# Altium footprint library XC7K160T.PcbLib: 72 footprints (part 2 of 5)
Each footprint in its own frame and in the unit in brackets; x right, y up, seen from the top. Pads: shape width x height; smd on the part's side, far side on the other; paste and mask are expansions set on the pad; w line width, h text height; cw(c..) or ccw(c..) is an arc to the next point about the centre after c.
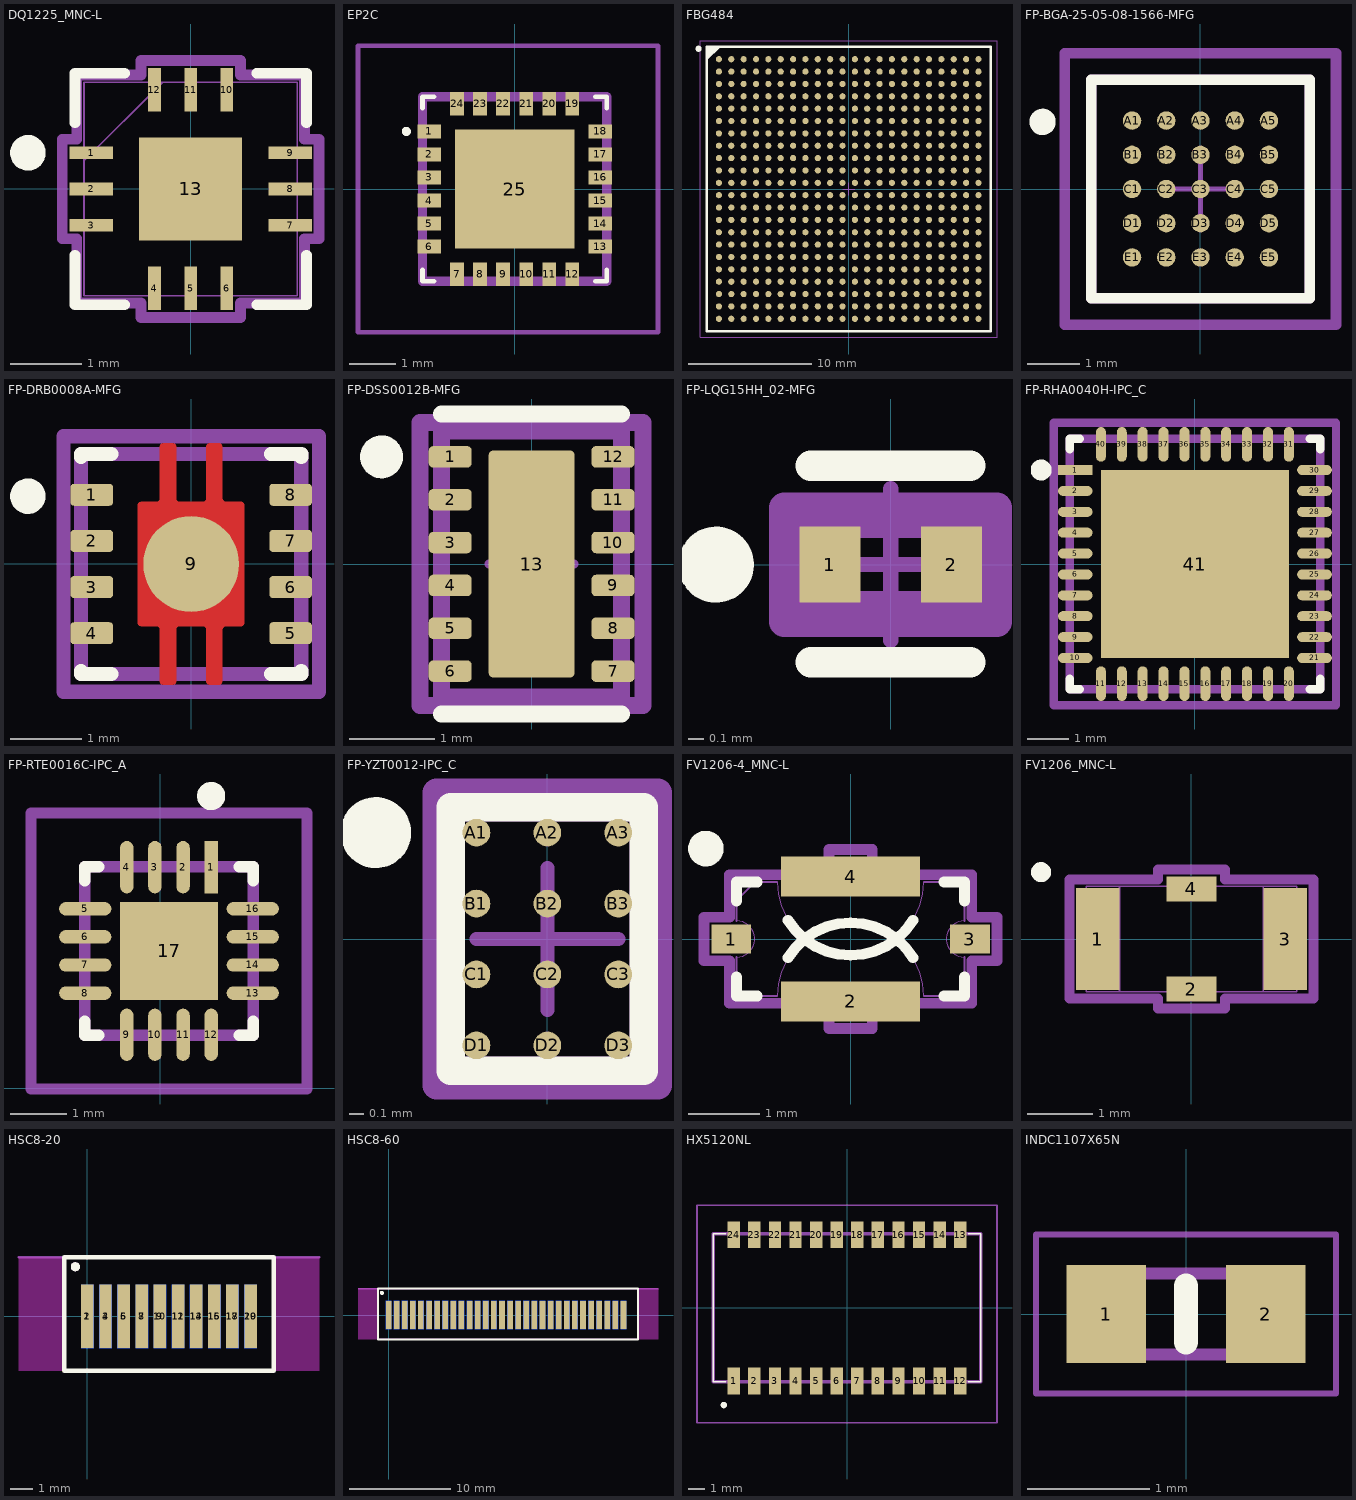
[diagram p1: the footprints below, top view; thin cyan lines are the x and y axes]

## DQ1225_MNC-L [mil]
pads (13):
  rect 24x7 smd paste+0 mask+0: 1(-55,20) 2(-55,0) 3(-55,-20) 7(55,-20) 8(55,0) 9(55,20)
  rect 7x24 smd paste+0 mask+0: 4(-20,-55) 5(0,-55) 6(20,-55) 10(20,55) 11(0,55) 12(-20,55)
  rect 57x57 smd paste+0 mask+0: 13(0,0)
Top Overlay:
  circle w9.84: c-90,20 r4.92
  lines w6: -64,-36.6 -64,-64 -36.6,-64 ; -64,36.6 -64,64 -36.6,64 ; 36.6,-64 64,-64 64,-36.6 ; 36.6,64 64,64 64,36.6
Mechanical 13:
  lines w1: -59,9 -59,15.5 ; -24.5,59 -15.5,59 -59,15.5 ; -59,15.5 -59,24.5 -59,15.5 ; -59,-59 59,-59 59,59 -59,59 -59,-59 ; -59,-24.5 -59,-15.5 -59,-24.5 ; -59,-4.5 -59,4.5 -59,-4.5 ; -24.5,-59 -15.5,-59 -24.5,-59 ; -4.5,-59 4.5,-59 -4.5,-59 ; -4.5,59 4.5,59 -4.5,59 ; 15.5,-59 24.5,-59 15.5,-59 ; 15.5,59 24.5,59 15.5,59 ; 59,-24.5 59,-15.5 59,-24.5 ; 59,-4.5 59,4.5 59,-4.5 ; 59,15.5 59,24.5 59,15.5
Mechanical 15:
  lines w6: -71,-27.5 -63,-27.5 -63,-63 -27.5,-63 -27.5,-71 27.5,-71 27.5,-63 63,-63 63,-27.5 71,-27.5 71,27.5 63,27.5 63,63 27.5,63 27.5,71 -27.5,71 -27.5,63 -63,63 -63,27.5 -71,27.5 -71,-27.5
3D body: height 10, standoff 0, extent 0,0 10,10
3D body "DQ1225_MNC.step": height 35.12, standoff 0, extent -59.01,-59.01 59.02,59.02

## EP2C [mm]
pads (25):
  rect 0.51x0.3 smd: 1(-1.855,1.25) 2(-1.855,0.75) 3(-1.855,0.25) 4(-1.855,-0.25) 5(-1.855,-0.75) 6(-1.855,-1.25) 13(1.855,-1.25) 14(1.855,-0.75) 15(1.855,-0.25) 16(1.855,0.25) 17(1.855,0.75) 18(1.855,1.25)
  rect 0.3x0.51 smd: 7(-1.25,-1.855) 8(-0.75,-1.855) 9(-0.25,-1.855) 10(0.25,-1.855) 11(0.75,-1.855) 12(1.25,-1.855) 19(1.25,1.855) 20(0.75,1.855) 21(0.25,1.855) 22(-0.25,1.855) 23(-0.75,1.855) 24(-1.25,1.855)
  rect 2.59x2.59 smd: 25(0,0)
Top Overlay:
  lines w0.1: -2,-1.75 -2,-2 -1.75,-2 ; -2,1.75 -2,2 -1.75,2 ; 1.75,-2 2,-2 2,-1.75 ; 1.75,2 2,2 2,1.75 ; -2.4,1.25 cw(c-2.35,1.25) -2.3,1.25 cw(c-2.35,1.25) -2.4,1.25
Mechanical 13:
  lines w0.2: -2,-2 -2,2 2,2 2,-2 -2,-2
Mechanical 15:
  lines w0.1: -3.4,-3.11 -3.4,3.11 3.11,3.11 3.11,-3.11 -3.4,-3.11
3D body "EP2C+.stp": height 1.1, standoff 0, extent -2,-2 2,2

## FBG484 [mm]
pads (484):
  round 0.5 smd: A1(-10.5,10.5) A2(-9.5,10.5) A3(-8.5,10.5) A4(-7.5,10.5) A5(-6.5,10.5) A6(-5.5,10.5) A7(-4.5,10.5) A8(-3.5,10.5) A9(-2.5,10.5) A10(-1.5,10.5) A11(-0.5,10.5) A12(0.5,10.5) A13(1.5,10.5) A14(2.5,10.5) A15(3.5,10.5) A16(4.5,10.5) A17(5.5,10.5) A18(6.5,10.5) A19(7.5,10.5) A20(8.5,10.5) A21(9.5,10.5) A22(10.5,10.5) AA1(-10.5,-9.5) AA2(-9.5,-9.5) AA3(-8.5,-9.5) AA4(-7.5,-9.5) AA5(-6.5,-9.5) AA6(-5.5,-9.5) AA7(-4.5,-9.5) AA8(-3.5,-9.5) AA9(-2.5,-9.5) AA10(-1.5,-9.5) AA11(-0.5,-9.5) AA12(0.5,-9.5) AA13(1.5,-9.5) AA14(2.5,-9.5) AA15(3.5,-9.5) AA16(4.5,-9.5) AA17(5.5,-9.5) AA18(6.5,-9.5) AA19(7.5,-9.5) AA20(8.5,-9.5) AA21(9.5,-9.5) AA22(10.5,-9.5) AB1(-10.5,-10.5) AB2(-9.5,-10.5) AB3(-8.5,-10.5) AB4(-7.5,-10.5) AB5(-6.5,-10.5) AB6(-5.5,-10.5) AB7(-4.5,-10.5) AB8(-3.5,-10.5) AB9(-2.5,-10.5) AB10(-1.5,-10.5) AB11(-0.5,-10.5) AB12(0.5,-10.5) AB13(1.5,-10.5) AB14(2.5,-10.5) AB15(3.5,-10.5) AB16(4.5,-10.5) AB17(5.5,-10.5) AB18(6.5,-10.5) AB19(7.5,-10.5) AB20(8.5,-10.5) AB21(9.5,-10.5) AB22(10.5,-10.5) B1(-10.5,9.5) B2(-9.5,9.5) B3(-8.5,9.5) B4(-7.5,9.5) B5(-6.5,9.5) B6(-5.5,9.5) B7(-4.5,9.5) B8(-3.5,9.5) B9(-2.5,9.5) B10(-1.5,9.5) B11(-0.5,9.5) B12(0.5,9.5) B13(1.5,9.5) B14(2.5,9.5) B15(3.5,9.5) B16(4.5,9.5) B17(5.5,9.5) B18(6.5,9.5) B19(7.5,9.5) B20(8.5,9.5) B21(9.5,9.5) B22(10.5,9.5) C1(-10.5,8.5) C2(-9.5,8.5) C3(-8.5,8.5) C4(-7.5,8.5) C5(-6.5,8.5) C6(-5.5,8.5) C7(-4.5,8.5) C8(-3.5,8.5) C9(-2.5,8.5) C10(-1.5,8.5) C11(-0.5,8.5) C12(0.5,8.5) C13(1.5,8.5) C14(2.5,8.5) C15(3.5,8.5) C16(4.5,8.5) C17(5.5,8.5) C18(6.5,8.5) C19(7.5,8.5) C20(8.5,8.5) C21(9.5,8.5) C22(10.5,8.5) D1(-10.5,7.5) D2(-9.5,7.5) D3(-8.5,7.5) D4(-7.5,7.5) D5(-6.5,7.5) D6(-5.5,7.5) D7(-4.5,7.5) D8(-3.5,7.5) D9(-2.5,7.5) D10(-1.5,7.5) D11(-0.5,7.5) D12(0.5,7.5) D13(1.5,7.5) D14(2.5,7.5) D15(3.5,7.5) D16(4.5,7.5) D17(5.5,7.5) D18(6.5,7.5) D19(7.5,7.5) D20(8.5,7.5) D21(9.5,7.5) D22(10.5,7.5) E1(-10.5,6.5) E2(-9.5,6.5) E3(-8.5,6.5) E4(-7.5,6.5) E5(-6.5,6.5) E6(-5.5,6.5) E7(-4.5,6.5) E8(-3.5,6.5) E9(-2.5,6.5) E10(-1.5,6.5) E11(-0.5,6.5) E12(0.5,6.5) E13(1.5,6.5) E14(2.5,6.5) E15(3.5,6.5) E16(4.5,6.5) E17(5.5,6.5) E18(6.5,6.5) E19(7.5,6.5) E20(8.5,6.5) E21(9.5,6.5) E22(10.5,6.5) F1(-10.5,5.5) F2(-9.5,5.5) F3(-8.5,5.5) F4(-7.5,5.5) F5(-6.5,5.5) F6(-5.5,5.5) F7(-4.5,5.5) F8(-3.5,5.5) F9(-2.5,5.5) F10(-1.5,5.5) F11(-0.5,5.5) F12(0.5,5.5) F13(1.5,5.5) F14(2.5,5.5) F15(3.5,5.5) F16(4.5,5.5) F17(5.5,5.5) F18(6.5,5.5) F19(7.5,5.5) F20(8.5,5.5) F21(9.5,5.5) F22(10.5,5.5) G1(-10.5,4.5) G2(-9.5,4.5) G3(-8.5,4.5) G4(-7.5,4.5) G5(-6.5,4.5) G6(-5.5,4.5) G7(-4.5,4.5) G8(-3.5,4.5) G9(-2.5,4.5) G10(-1.5,4.5) G11(-0.5,4.5) G12(0.5,4.5) G13(1.5,4.5) G14(2.5,4.5) G15(3.5,4.5) G16(4.5,4.5) G17(5.5,4.5) G18(6.5,4.5) G19(7.5,4.5) G20(8.5,4.5) G21(9.5,4.5) G22(10.5,4.5) H1(-10.5,3.5) H2(-9.5,3.5) H3(-8.5,3.5) H4(-7.5,3.5) H5(-6.5,3.5) H6(-5.5,3.5) H7(-4.5,3.5) H8(-3.5,3.5) H9(-2.5,3.5) H10(-1.5,3.5) H11(-0.5,3.5) H12(0.5,3.5) H13(1.5,3.5) H14(2.5,3.5) H15(3.5,3.5) H16(4.5,3.5) H17(5.5,3.5) H18(6.5,3.5) H19(7.5,3.5) H20(8.5,3.5) H21(9.5,3.5) H22(10.5,3.5) J1(-10.5,2.5) J2(-9.5,2.5) J3(-8.5,2.5) J4(-7.5,2.5) J5(-6.5,2.5) J6(-5.5,2.5) J7(-4.5,2.5) J8(-3.5,2.5) J9(-2.5,2.5) J10(-1.5,2.5) J11(-0.5,2.5) J12(0.5,2.5) J13(1.5,2.5) J14(2.5,2.5) J15(3.5,2.5) J16(4.5,2.5) J17(5.5,2.5) J18(6.5,2.5) J19(7.5,2.5) J20(8.5,2.5) J21(9.5,2.5) J22(10.5,2.5) K1(-10.5,1.5) K2(-9.5,1.5) K3(-8.5,1.5) K4(-7.5,1.5) K5(-6.5,1.5) K6(-5.5,1.5) K7(-4.5,1.5) K8(-3.5,1.5) K9(-2.5,1.5) K10(-1.5,1.5) K11(-0.5,1.5) K12(0.5,1.5) K13(1.5,1.5) K14(2.5,1.5) K15(3.5,1.5) K16(4.5,1.5) K17(5.5,1.5) K18(6.5,1.5) K19(7.5,1.5) K20(8.5,1.5) K21(9.5,1.5) K22(10.5,1.5) L1(-10.5,0.5) L2(-9.5,0.5) L3(-8.5,0.5) L4(-7.5,0.5) L5(-6.5,0.5) L6(-5.5,0.5) L7(-4.5,0.5) L8(-3.5,0.5) L9(-2.5,0.5) L10(-1.5,0.5) L11(-0.5,0.5) L12(0.5,0.5) L13(1.5,0.5) L14(2.5,0.5) L15(3.5,0.5) L16(4.5,0.5) L17(5.5,0.5) L18(6.5,0.5) L19(7.5,0.5) L20(8.5,0.5) L21(9.5,0.5) L22(10.5,0.5) M1(-10.5,-0.5) M2(-9.5,-0.5) M3(-8.5,-0.5) M4(-7.5,-0.5) M5(-6.5,-0.5) M6(-5.5,-0.5) M7(-4.5,-0.5) M8(-3.5,-0.5) M9(-2.5,-0.5) M10(-1.5,-0.5) M11(-0.5,-0.5) M12(0.5,-0.5) M13(1.5,-0.5) M14(2.5,-0.5) M15(3.5,-0.5) M16(4.5,-0.5) M17(5.5,-0.5) M18(6.5,-0.5) M19(7.5,-0.5) M20(8.5,-0.5) M21(9.5,-0.5) M22(10.5,-0.5) N1(-10.5,-1.5) N2(-9.5,-1.5) N3(-8.5,-1.5) N4(-7.5,-1.5) N5(-6.5,-1.5) N6(-5.5,-1.5) N7(-4.5,-1.5) N8(-3.5,-1.5) N9(-2.5,-1.5) N10(-1.5,-1.5) N11(-0.5,-1.5) N12(0.5,-1.5) N13(1.5,-1.5) N14(2.5,-1.5) N15(3.5,-1.5) N16(4.5,-1.5) N17(5.5,-1.5) N18(6.5,-1.5) N19(7.5,-1.5) N20(8.5,-1.5) N21(9.5,-1.5) N22(10.5,-1.5) P1(-10.5,-2.5) P2(-9.5,-2.5) P3(-8.5,-2.5) P4(-7.5,-2.5) P5(-6.5,-2.5) P6(-5.5,-2.5) P7(-4.5,-2.5) P8(-3.5,-2.5) P9(-2.5,-2.5) P10(-1.5,-2.5) P11(-0.5,-2.5) P12(0.5,-2.5) P13(1.5,-2.5) P14(2.5,-2.5) P15(3.5,-2.5) P16(4.5,-2.5) P17(5.5,-2.5) P18(6.5,-2.5) P19(7.5,-2.5) P20(8.5,-2.5) P21(9.5,-2.5) P22(10.5,-2.5) R1(-10.5,-3.5) R2(-9.5,-3.5) R3(-8.5,-3.5) R4(-7.5,-3.5) R5(-6.5,-3.5) R6(-5.5,-3.5) R7(-4.5,-3.5) R8(-3.5,-3.5) R9(-2.5,-3.5) R10(-1.5,-3.5) R11(-0.5,-3.5) R12(0.5,-3.5) R13(1.5,-3.5) R14(2.5,-3.5) R15(3.5,-3.5) R16(4.5,-3.5) R17(5.5,-3.5) R18(6.5,-3.5) R19(7.5,-3.5) R20(8.5,-3.5) R21(9.5,-3.5) R22(10.5,-3.5) T1(-10.5,-4.5) T2(-9.5,-4.5) T3(-8.5,-4.5) T4(-7.5,-4.5) T5(-6.5,-4.5) T6(-5.5,-4.5) T7(-4.5,-4.5) T8(-3.5,-4.5) T9(-2.5,-4.5) T10(-1.5,-4.5) T11(-0.5,-4.5) T12(0.5,-4.5) T13(1.5,-4.5) T14(2.5,-4.5) T15(3.5,-4.5) T16(4.5,-4.5) T17(5.5,-4.5) T18(6.5,-4.5) T19(7.5,-4.5) T20(8.5,-4.5) T21(9.5,-4.5) T22(10.5,-4.5) U1(-10.5,-5.5) U2(-9.5,-5.5) U3(-8.5,-5.5) U4(-7.5,-5.5) U5(-6.5,-5.5) U6(-5.5,-5.5) U7(-4.5,-5.5) U8(-3.5,-5.5) U9(-2.5,-5.5) U10(-1.5,-5.5) U11(-0.5,-5.5) U12(0.5,-5.5) U13(1.5,-5.5) U14(2.5,-5.5) U15(3.5,-5.5) U16(4.5,-5.5) U17(5.5,-5.5) U18(6.5,-5.5) U19(7.5,-5.5) U20(8.5,-5.5) U21(9.5,-5.5) U22(10.5,-5.5) V1(-10.5,-6.5) V2(-9.5,-6.5) V3(-8.5,-6.5) V4(-7.5,-6.5) V5(-6.5,-6.5) V6(-5.5,-6.5) V7(-4.5,-6.5) V8(-3.5,-6.5) V9(-2.5,-6.5) V10(-1.5,-6.5) V11(-0.5,-6.5) V12(0.5,-6.5) V13(1.5,-6.5) V14(2.5,-6.5) V15(3.5,-6.5) V16(4.5,-6.5) V17(5.5,-6.5) V18(6.5,-6.5) V19(7.5,-6.5) V20(8.5,-6.5) V21(9.5,-6.5) V22(10.5,-6.5) W1(-10.5,-7.5) W2(-9.5,-7.5) W3(-8.5,-7.5) W4(-7.5,-7.5) W5(-6.5,-7.5) W6(-5.5,-7.5) W7(-4.5,-7.5) W8(-3.5,-7.5) W9(-2.5,-7.5) W10(-1.5,-7.5) W11(-0.5,-7.5) W12(0.5,-7.5) W13(1.5,-7.5) W14(2.5,-7.5) W15(3.5,-7.5) W16(4.5,-7.5) W17(5.5,-7.5) W18(6.5,-7.5) W19(7.5,-7.5) W20(8.5,-7.5) W21(9.5,-7.5) W22(10.5,-7.5) Y1(-10.5,-8.5) Y2(-9.5,-8.5) Y3(-8.5,-8.5) Y4(-7.5,-8.5) Y5(-6.5,-8.5) Y6(-5.5,-8.5) Y7(-4.5,-8.5) Y8(-3.5,-8.5) Y9(-2.5,-8.5) Y10(-1.5,-8.5) Y11(-0.5,-8.5) Y12(0.5,-8.5) Y13(1.5,-8.5) Y14(2.5,-8.5) Y15(3.5,-8.5) Y16(4.5,-8.5) Y17(5.5,-8.5) Y18(6.5,-8.5) Y19(7.5,-8.5) Y20(8.5,-8.5) Y21(9.5,-8.5) Y22(10.5,-8.5)
Top Overlay:
  circle w0.25: c-12.15,11.35 r0.125
  region: -10.5,11.5 -11.5,10.5 -11.5,11.5
  lines w0.2: -11.5,10.5 -10.5,11.5 ; -11.5,-11.5 -11.5,11.5 11.5,11.5 11.5,-11.5 -11.5,-11.5
Mechanical 13:
  lines w0.1: -11.5,-11.5 -11.5,11.5 11.5,11.5 11.5,-11.5 -11.5,-11.5
Mechanical 15:
  lines w0.05: -12,-12 -12,12 12,12 12,-12 -12,-12
  lines w0.1: -0.5,0 0.5,0 ; 0,-0.5 0,0.5
3D body: height 2.54, standoff 0.4, extent -11.5,-11.5 11.5,11.5

## FP-BGA-25-05-08-1566-MFG [mm]
pads (25):
  round 0.35 smd paste+0 mask+0: A1(-1.3,1.3) A2(-0.65,1.3) A3(0,1.3) A4(0.65,1.3) A5(1.3,1.3) B1(-1.3,0.65) B2(-0.65,0.65) B3(0,0.65) B4(0.65,0.65) B5(1.3,0.65) C1(-1.3,0) C2(-0.65,0) C3(0,0) C4(0.65,0) C5(1.3,0) D1(-1.3,-0.65) D2(-0.65,-0.65) D3(0,-0.65) D4(0.65,-0.65) D5(1.3,-0.65) E1(-1.3,-1.3) E2(-0.65,-1.3) E3(0,-1.3) E4(0.65,-1.3) E5(1.3,-1.3)
Top Overlay:
  circle w0.25: c-3,1.275 r0.125
  lines w0.2: -2.075,-2.075 2.075,-2.075 2.075,2.075 -2.075,2.075 -2.075,-2.075
Top 3D Body:
  lines w0.2: -2.075,-2.075 2.075,-2.075 2.075,2.075 -2.075,2.075 -2.075,-2.075
Top Courtyard:
  lines w0.2: -2.575,-2.575 2.575,-2.575 2.575,2.575 -2.575,2.575 -2.575,-2.575
Top Assembly:
  lines w0.2: -2.575,-2.575 2.575,-2.575 2.575,2.575 -2.575,2.575 -2.575,-2.575
Top Component Center:
  lines w0.1: -0.5,0 0.5,0 ; 0,-0.5 0,0.5
3D body "IC_Analog_Devices_LTM8074EY#PBF_eec.STEP": height 0.25, standoff 0, extent -2.575,-2.575 2.575,2.575

## FP-DRB0008A-MFG [mm]
pads (9):
  rrect32% 0.6x0.31 smd paste+0 mask+0: 1(-1.4,0.975) 2(-1.4,0.325) 3(-1.4,-0.325) 4(-1.4,-0.975) 5(1.4,-0.975) 6(1.4,-0.325) 7(1.4,0.325) 8(1.4,0.975)
  round 1.35 smd paste-1000 mask+0: 9(0,0)
Top Layer:
  region: -0.75,-0.825 -0.75,-0.835 -0.742,-0.853 -0.728,-0.867 -0.71,-0.875 -0.7,-0.875 -0.49,-0.875 -0.48,-0.876 -0.462,-0.883 -0.448,-0.897 -0.441,-0.915 -0.44,-0.925 -0.44,-1.65 -0.44,-1.66 -0.432,-1.678 -0.418,-1.692 -0.4,-1.7 -0.39,-1.7 -0.26,-1.7 -0.25,-1.7 -0.232,-1.692 -0.218,-1.678 -0.21,-1.66 -0.21,-1.65 -0.21,-0.925 -0.209,-0.915 -0.202,-0.897 -0.188,-0.883 -0.17,-0.876 -0.16,-0.875 0.16,-0.875 0.17,-0.876 0.188,-0.883 0.202,-0.897 0.209,-0.915 0.21,-0.925 0.21,-1.65 0.21,-1.66 0.218,-1.678 0.232,-1.692 0.25,-1.7 0.26,-1.7 0.39,-1.7 0.4,-1.7 0.418,-1.692 0.432,-1.678 0.44,-1.66 0.44,-1.65 0.44,-0.925 0.441,-0.915 0.448,-0.897 0.462,-0.883 0.48,-0.876 0.49,-0.875 0.7,-0.875 0.71,-0.875 0.728,-0.867 0.742,-0.853 0.75,-0.835 0.75,-0.825 0.75,0.825 0.75,0.835 0.742,0.853 0.728,0.867 0.71,0.875 0.7,0.875 0.49,0.875 0.48,0.876 0.462,0.883 0.448,0.897 0.441,0.915 0.44,0.925 0.44,1.65 0.44,1.66 0.432,1.678 0.418,1.692 0.4,1.7 0.39,1.7 0.26,1.7 0.25,1.7 0.232,1.692 0.218,1.678 0.21,1.66 0.21,1.65 0.21,0.925 0.209,0.915 0.202,0.897 0.188,0.883 0.17,0.876 0.16,0.875 -0.16,0.875 -0.17,0.876 -0.188,0.883 -0.202,0.897 -0.209,0.915 -0.21,0.925 -0.21,1.65 -0.21,1.66 -0.218,1.678 -0.232,1.692 -0.25,1.7 -0.26,1.7 -0.39,1.7 -0.4,1.7 -0.418,1.692 -0.432,1.678 -0.44,1.66 -0.44,1.65 -0.44,0.925 -0.441,0.915 -0.448,0.897 -0.462,0.883 -0.48,0.876 -0.49,0.875 -0.7,0.875 -0.71,0.875 -0.728,0.867 -0.742,0.853 -0.75,0.835 -0.75,0.825
Top Overlay:
  circle w0.25: c-2.3,0.955 r0.125
  lines w0.2: -1.55,-1.505 -1.55,-1.55 -1.125,-1.55 ; -1.55,1.505 -1.55,1.55 -1.125,1.55 ; 1.125,-1.55 1.55,-1.55 1.55,-1.505 ; 1.125,1.55 1.55,1.55 1.55,1.505
Top Paste:
  region: -0.67,-0.725 -0.67,0.725 -0.67,0.735 -0.662,0.753 -0.648,0.767 -0.63,0.775 -0.62,0.775 0.62,0.775 0.63,0.775 0.648,0.767 0.662,0.753 0.67,0.735 0.67,0.725 0.67,-0.725 0.67,-0.735 0.662,-0.753 0.648,-0.767 0.63,-0.775 0.62,-0.775 -0.62,-0.775 -0.63,-0.775 -0.648,-0.767 -0.662,-0.753 -0.67,-0.735
  region: 0.26,-0.974 0.39,-0.974 0.4,-0.974 0.418,-0.982 0.432,-0.996 0.44,-1.015 0.44,-1.024 0.44,-1.649 0.44,-1.659 0.432,-1.678 0.418,-1.692 0.4,-1.699 0.39,-1.699 0.26,-1.699 0.25,-1.699 0.232,-1.692 0.218,-1.678 0.21,-1.659 0.21,-1.649 0.21,-1.025 0.21,-1.015 0.218,-0.996 0.232,-0.982 0.25,-0.975
  region: -0.21,-1.025 -0.21,-1.649 -0.21,-1.659 -0.218,-1.678 -0.232,-1.692 -0.25,-1.699 -0.26,-1.699 -0.39,-1.699 -0.4,-1.699 -0.418,-1.692 -0.432,-1.678 -0.44,-1.659 -0.44,-1.649 -0.44,-1.024 -0.44,-1.015 -0.432,-0.996 -0.418,-0.982 -0.4,-0.974 -0.39,-0.974 -0.39,-0.975 -0.26,-0.974 -0.25,-0.974 -0.232,-0.982 -0.218,-0.996 -0.21,-1.015
  region: 0.26,0.975 0.25,0.975 0.232,0.982 0.218,0.996 0.21,1.015 0.21,1.025 0.21,1.024 0.21,1.65 0.21,1.659 0.218,1.678 0.232,1.692 0.25,1.7 0.26,1.7 0.26,1.699 0.39,1.699 0.4,1.699 0.418,1.692 0.432,1.678 0.44,1.659 0.44,1.649 0.44,1.65 0.44,1.024 0.44,1.015 0.432,0.996 0.418,0.982 0.4,0.974 0.39,0.974
  region: -0.39,1.699 -0.26,1.699 -0.25,1.699 -0.232,1.692 -0.218,1.678 -0.21,1.659 -0.21,1.649 -0.21,1.024 -0.21,1.015 -0.218,0.996 -0.232,0.982 -0.25,0.974 -0.26,0.974 -0.39,0.974 -0.4,0.974 -0.418,0.982 -0.432,0.996 -0.44,1.015 -0.44,1.024 -0.44,1.65 -0.44,1.659 -0.432,1.678 -0.418,1.692 -0.4,1.7
Top 3D Body:
  lines w0.2: -1.55,-1.55 -1.55,1.55 1.55,1.55 1.55,-1.55 -1.55,-1.55
Top Courtyard:
  lines w0.2: -1.8,-1.8 -1.8,1.8 1.8,1.8 1.8,-1.8 -1.8,-1.8
Top Assembly:
  lines w0.2: -1.8,-1.8 -1.8,1.8 1.8,1.8 1.8,-1.8 -1.8,-1.8
Top Component Center:
  lines w0.1: -0.5,0 0.5,0 ; 0,-0.5 0,0.5
3D body "IC_Texas_instruments_TVS0701DRBR_eec.STEP": height 1, standoff 0, extent -1.5,-1.5 1.5,1.5

## FP-DSS0012B-MFG [mm]
pads (13):
  rrect40% 0.5x0.25 smd paste+0 mask+0: 1(-0.95,1.25) 2(-0.95,0.75) 3(-0.95,0.25) 4(-0.95,-0.25) 5(-0.95,-0.75) 6(-0.95,-1.25) 7(0.95,-1.25) 8(0.95,-0.75) 9(0.95,-0.25) 10(0.95,0.25) 11(0.95,0.75) 12(0.95,1.25)
  rrect10% 1x2.65 smd paste-1000 mask+0: 13(0,0)
Top Overlay:
  circle w0.25: c-1.75,1.25 r0.125
  lines w0.2: -1.05,-1.75 1.05,-1.75 ; -1.05,1.75 1.05,1.75
Top Paste:
  region: 0.475,1.22 0.475,0.15 0.475,0.14 0.467,0.122 0.453,0.108 0.435,0.1 0.425,0.1 -0.425,0.1 -0.435,0.1 -0.453,0.108 -0.467,0.122 -0.475,0.14 -0.475,0.15 -0.475,1.22 -0.475,1.23 -0.467,1.248 -0.453,1.262 -0.435,1.27 -0.425,1.27 0.425,1.27 0.435,1.27 0.453,1.262 0.467,1.248 0.475,1.23
  region: 0.475,-1.22 0.475,-1.23 0.467,-1.248 0.453,-1.262 0.435,-1.27 0.425,-1.27 -0.425,-1.27 -0.435,-1.27 -0.453,-1.262 -0.467,-1.248 -0.475,-1.23 -0.475,-1.22 -0.475,-0.15 -0.475,-0.14 -0.467,-0.122 -0.453,-0.108 -0.435,-0.1 -0.425,-0.1 0.425,-0.1 0.435,-0.1 0.453,-0.108 0.467,-0.122 0.475,-0.14 0.475,-0.15
Top 3D Body:
  lines w0.2: -1.05,-1.55 1.05,-1.55 1.05,1.55 -1.05,1.55 -1.05,-1.55
Top Courtyard:
  lines w0.2: -1.3,-1.65 1.3,-1.65 1.3,1.65 -1.3,1.65 -1.3,-1.65
Top Assembly:
  lines w0.2: -1.3,-1.65 1.3,-1.65 1.3,1.65 -1.3,1.65 -1.3,-1.65
Top Component Center:
  lines w0.1: -0.5,0 0.5,0 ; 0,-0.5 0,0.5
3D body "IC_Texas_Instruments_LM27762DSSR_eec.STEP": height 0.25, standoff 0, extent -1.3,-1.65 1.3,1.65

## FP-LQG15HH_02-MFG [mm]
pads (2):
  rect 0.4x0.5 smd paste+0 mask+0: 1(-0.4,0) 2(0.4,0)
Top Overlay:
  circle w0.25: c-1.15,0 r0.125
  lines w0.2: -0.525,-0.642 0.525,-0.642 ; -0.525,0.65 0.525,0.65
Top 3D Body:
  lines w0.2: -0.525,-0.275 0.525,-0.275 0.525,0.275 -0.525,0.275 -0.525,-0.275
Top Courtyard:
  lines w0.2: -0.7,-0.375 0.7,-0.375 0.7,0.375 -0.7,0.375 -0.7,-0.375
Top Assembly:
  lines w0.2: -0.7,-0.375 0.7,-0.375 0.7,0.375 -0.7,0.375 -0.7,-0.375
Top Component Center:
  lines w0.1: -0.5,0 0.5,0 ; 0,-0.5 0,0.5
3D body "Ind_Murata_LQG15HN39NJ02D_eec.STEP": height 0.25, standoff 0, extent -0.7,-0.375 0.7,0.375

## FP-RHA0040H-IPC_C [mm]
pads (41):
  rect 0.829x0.239 smd paste+0 mask+0: 1(-2.865,2.25)
  rrect100% 0.829x0.239 smd paste+0 mask+0: 2(-2.865,1.75) 3(-2.865,1.25) 4(-2.865,0.75) 5(-2.865,0.25) 6(-2.865,-0.25) 7(-2.865,-0.75) 8(-2.865,-1.25) 9(-2.865,-1.75) 10(-2.865,-2.25) 21(2.865,-2.25) 22(2.865,-1.75) 23(2.865,-1.25) 24(2.865,-0.75) 25(2.865,-0.25) 26(2.865,0.25) 27(2.865,0.75) 28(2.865,1.25) 29(2.865,1.75) 30(2.865,2.25)
  rrect100% 0.239x0.829 smd paste+0 mask+0: 11(-2.25,-2.865) 12(-1.75,-2.865) 13(-1.25,-2.865) 14(-0.75,-2.865) 15(-0.25,-2.865) 16(0.25,-2.865) 17(0.75,-2.865) 18(1.25,-2.865) 19(1.75,-2.865) 20(2.25,-2.865) 31(2.25,2.865) 32(1.75,2.865) 33(1.25,2.865) 34(0.75,2.865) 35(0.25,2.865) 36(-0.25,2.865) 37(-0.75,2.865) 38(-1.25,2.865) 39(-1.75,2.865) 40(-2.25,2.865)
  rect 4.5x4.5 smd paste-1000 mask+0: 41(0,0)
Top Overlay:
  circle w0.25: c-3.679,2.25 r0.125
  lines w0.2: -3,-2.75 -3,-3 -2.75,-3 ; -3,2.75 -3,3 -2.75,3 ; 2.75,-3 3,-3 3,-2.75 ; 2.75,3 3,3 3,2.75
Top Paste:
  rectangle: 0.282,-1.736 1.736,-0.282
  rectangle: -1.736,-1.736 -0.282,-0.282
  rectangle: 0.282,0.282 1.736,1.736
  rectangle: -1.736,0.282 -0.282,1.736
Top 3D Body:
  lines w0.2: -3,-3 -3,3 3,3 3,-3 -3,-3
Top Courtyard:
  lines w0.2: -3.379,-3.379 -3.379,3.379 3.379,3.379 3.379,-3.379 -3.379,-3.379
Top Assembly:
  lines w0.2: -3.379,-3.379 -3.379,3.379 3.379,3.379 3.379,-3.379 -3.379,-3.379
Top Component Center:
  lines w0.1: -0.5,0 0.5,0 ; 0,-0.5 0,0.5
3D body "IC_Texas_Instruments_CC2533F64RHAR_eec.STEP": height 0.25, standoff 0, extent -3.379,-3.379 3.379,3.379

## FP-RTE0016C-IPC_A [mm]
pads (17):
  rect 0.239x0.931 smd paste+0 mask+0: 1(0.902,3.929)
  rrect100% 0.239x0.931 smd paste+0 mask+0: 2(0.402,3.929) 3(-0.098,3.929) 4(-0.598,3.929) 9(-0.598,0.948) 10(-0.098,0.948) 11(0.402,0.948) 12(0.902,0.948)
  rrect100% 0.931x0.239 smd paste+0 mask+0: 5(-1.338,3.188) 6(-1.338,2.688) 7(-1.338,2.188) 8(-1.338,1.688) 13(1.643,1.688) 14(1.643,2.188) 15(1.643,2.688) 16(1.643,3.188)
  rect 1.75x1.75 smd paste-1000 mask+0: 17(0.152,2.438)
Top Overlay:
  circle w0.25: c0.902,5.194 r0.125
  lines w0.2: -1.348,1.188 -1.348,0.938 -1.098,0.938 ; -1.348,3.688 -1.348,3.938 -1.098,3.938 ; 1.402,0.938 1.652,0.938 1.652,1.188 ; 1.402,3.938 1.652,3.938 1.652,3.688
Top Paste:
  region: -0.401,2.992 -0.401,1.885 0.706,1.885 0.706,2.992
Top 3D Body:
  lines w0.2: -1.348,0.938 1.652,0.938 1.652,3.938 -1.348,3.938 -1.348,0.938
Top Courtyard:
  lines w0.2: -2.304,-0.018 2.608,-0.018 2.608,4.894 -2.304,4.894 -2.304,-0.018
Top Assembly:
  lines w0.2: -2.304,-0.018 2.608,-0.018 2.608,4.894 -2.304,4.894 -2.304,-0.018
Top Component Center:
  lines w0.1: -0.348,2.438 0.652,2.438 ; 0.152,1.938 0.152,2.938

## FP-YZT0012-IPC_C [mm]
pads (12):
  round 0.196 smd paste+0 mask+0: A1(-0.5,0.75) A2(0,0.75) A3(0.5,0.75) B1(-0.5,0.25) B2(0,0.25) B3(0.5,0.25) C1(-0.5,-0.25) C2(0,-0.25) C3(0.5,-0.25) D1(-0.5,-0.75) D2(0,-0.75) D3(0.5,-0.75)
Top Overlay:
  circle w0.25: c-1.21,0.75 r0.125
  lines w0.2: -0.68,-0.93 0.68,-0.93 0.68,0.93 -0.68,0.93 -0.68,-0.93
Top 3D Body:
  lines w0.2: -0.68,-0.93 0.68,-0.93 0.68,0.93 -0.68,0.93 -0.68,-0.93
Top Courtyard:
  lines w0.2: -0.78,-1.03 0.78,-1.03 0.78,1.03 -0.78,1.03 -0.78,-1.03
Top Assembly:
  lines w0.2: -0.78,-1.03 0.78,-1.03 0.78,1.03 -0.78,1.03 -0.78,-1.03
Top Component Center:
  lines w0.1: -0.5,0 0.5,0 ; 0,-0.5 0,0.5
3D body "IC_Texas_Instruments_TXB0104YZTR_eec.STEP": height 0.63, standoff 0, extent -0.68,-0.93 0.68,0.93

## FV1206-4_MNC-L [mil]
pads (4):
  rect 22x16 smd paste+0 mask+0: 1(-66,0) 3(66,0)
  rect 77x22 smd paste+0 mask+0: 2(0,-34.5) 4(0,34.5)
Top Overlay:
  circle w9.84: c-80,50 r4.92
  lines w6: -63,-21.1 -63,-31.5 -51.6,-31.5 ; -63,21.1 -63,31.5 -51.6,31.5 ; -34.57,-10.4 cw(c0,-31.5) 34.57,-10.4 ; -34.57,10.4 ccw(c0,31.5) 34.57,10.4 ; 51.6,-31.5 63,-31.5 63,-21.1 ; 51.6,31.5 63,31.5 63,21.1
Mechanical 13:
  lines w0: -63,-10 ccw(c-63,0) -63,10 ; -40.5,-31.5 cw(c0,-31.5) 40.5,-31.5 ; -40.5,31.5 ccw(c0,31.5) 40.5,31.5 ; 63,-10 cw(c63,0) 63,10
  lines w1: -63,-10 -63,-31.5 -40.5,-31.5 ; -63,10 -63,31.5 -40.5,31.5 ; -63,21.5 -53,31.5 ; 40.5,-31.5 63,-31.5 63,-10 ; 40.5,31.5 63,31.5 63,10
Mechanical 15:
  lines w6: -81,-12 -81,12 -67,12 -67,35.5 -12,35.5 -12,49.5 12,49.5 12,35.5 67,35.5 67,12 81,12 81,-12 67,-12 67,-35.5 12,-35.5 12,-49.5 -12,-49.5 -12,-35.5 -67,-35.5 -67,-12 -81,-12
3D body: height 20, standoff 0, extent -65,-30 65,30

## FV1206_MNC-L [mil]
pads (4):
  rect 26x61 smd paste+0 mask+0: 1(-56,0) 3(56,0)
  rect 30x15 smd paste+0 mask+0: 2(0,-30) 4(0,30)
Top Overlay:
  circle w6: c-90,40 r3
Mechanical 13:
  circle w0: c-46,0 r3
  lines w1: -63,-31.5 -63,31.5 ; -63,-31.5 63,-31.5 ; -63,-31.5 -43,-31.5 -43,31.5 -63,31.5 ; -63,-31.5 -63,31.5 ; -63,31.5 63,31.5 ; 63,-31.5 63,31.5 ; 63,-31.5 63,31.5 ; 63,-31.5 43,-31.5 43,31.5 63,31.5
Mechanical 15:
  lines w6: -73,-35.5 -20,-35.5 -20,-41.5 20,-41.5 20,-35.5 73,-35.5 73,35.5 20,35.5 20,41.5 -20,41.5 -20,35.5 -73,35.5 -73,-35.5
3D body: height 10, standoff 0, extent -55,-30 55,30
3D body "FV1206_MNC.step": height 37.01, standoff 0, extent -62.99,-31.5 62.99,31.5

## HSC8-20 [mm]
pads (20):
  rect 0.55x2.8 smd: 1(0,0) 3(0.8,0) 5(1.6,0) 7(2.4,0) 9(3.2,0) 11(4,0) 13(4.8,0) 15(5.6,0) 17(6.4,0) 19(7.2,0)
  rect 0.55x2.8 smd far side: 2(0,0) 4(0.8,0) 6(1.6,0) 8(2.4,0) 10(3.2,0) 12(4,0) 14(4.8,0) 16(5.6,0) 18(6.4,0) 20(7.2,0)
Top Overlay:
  circle w0.2: c-0.53,2.186 r0.1
  lines w0.203: -1.025,-2.4 -1.025,2.6 8.216,2.6 8.216,-2.4 -1.025,-2.4
Keep-Out Layer:
  board cut-out: -3.015,-2.4 -1.015,-2.4 -1.015,2.604 -3.015,2.604
  board cut-out: 8.216,-2.4 10.216,-2.4 10.216,2.604 8.216,2.604
Mechanical 1:
  lines w0.127: -3.015,2.604 -1.015,2.604 ; -1.015,2.54 -1.015,-2.4 ; 10.216,2.604 8.216,2.604 ; -1.015,-2.4 -1.025,-2.4 8.216,-2.4 8.216,2.604 ; -1.015,-2.4 -1.015,2.604 ; -1.015,2.604 8.216,2.604
Mechanical 13:
  circle w0.2: c-0.53,2.186 r0.1

## HSC8-60 [mm]
pads (60):
  rect 0.55x2.8 smd: 1(0,0) 3(0.8,0) 5(1.6,0) 7(2.4,0) 9(3.2,0) 11(4,0) 13(4.8,0) 15(5.6,0) 17(6.4,0) 19(7.2,0) 21(8,0) 23(8.8,0) 25(9.6,0) 27(10.4,0) 29(11.2,0) 31(12,0) 33(12.8,0) 35(13.6,0) 37(14.4,0) 39(15.2,0) 41(16,0) 43(16.8,0) 45(17.6,0) 47(18.4,0) 49(19.2,0) 51(20,0) 53(20.8,0) 55(21.6,0) 57(22.4,0) 59(23.2,0)
  rect 0.55x2.8 smd far side: 2(0,0) 4(0.8,0) 6(1.6,0) 8(2.4,0) 10(3.2,0) 12(4,0) 14(4.8,0) 16(5.6,0) 18(6.4,0) 20(7.2,0) 22(8,0) 24(8.8,0) 26(9.6,0) 28(10.4,0) 30(11.2,0) 32(12,0) 34(12.8,0) 36(13.6,0) 38(14.4,0) 40(15.2,0) 42(16,0) 44(16.8,0) 46(17.6,0) 48(18.4,0) 50(19.2,0) 52(20,0) 54(20.8,0) 56(21.6,0) 58(22.4,0) 60(23.2,0)
Top Overlay:
  circle w0.2: c-0.657,2.186 r0.1
  lines w0.203: -1.025,-2.4 -1.025,2.6 24.612,2.6 24.612,-2.4 -1.025,-2.4
Keep-Out Layer:
  board cut-out: 26.605,-2.4 24.605,-2.4 24.605,2.604 26.605,2.604
  board cut-out: -3.015,-2.4 -1.015,-2.4 -1.015,2.604 -3.015,2.604
Mechanical 1:
  lines w0.127: -3.015,2.604 -1.015,2.604 ; 26.605,2.604 24.605,2.604 ; -1.015,2.604 -1.015,-2.4 -1.025,-2.4 24.605,-2.4 24.605,2.604 ; -1.015,2.604 24.605,2.604
Mechanical 13:
  circle w0.2: c-0.657,2.186 r0.1

## HX5120NL [mm]
pads (24):
  rect 0.76x1.65 smd: 1(-6.985,-4.51) 2(-5.715,-4.51) 3(-4.445,-4.51) 4(-3.175,-4.51) 5(-1.905,-4.51) 6(-0.635,-4.51) 7(0.635,-4.51) 8(1.905,-4.51) 9(3.175,-4.51) 10(4.445,-4.51) 11(5.715,-4.51) 12(6.985,-4.51) 13(6.985,4.51) 14(5.715,4.51) 15(4.445,4.51) 16(3.175,4.51) 17(1.905,4.51) 18(0.635,4.51) 19(-0.635,4.51) 20(-1.905,4.51) 21(-3.175,4.51) 22(-4.445,4.51) 23(-5.715,4.51) 24(-6.985,4.51)
Top Overlay:
  lines w0.1: -7.5,-4.57 -8.255,-4.57 -8.255,4.57 -7.5,4.57 ; 7.5,-4.57 8.255,-4.57 8.255,4.57 7.5,4.57
  lines w0.2: -7.7,-6 cw(c-7.6,-6) -7.5,-6 cw(c-7.6,-6) -7.7,-6
Mechanical 13:
  lines w0.2: -8.255,-4.57 8.255,-4.57 8.255,4.57 -8.255,4.57 -8.255,-4.57
Mechanical 15:
  lines w0.1: -9.255,-7.1 9.255,-7.1 9.255,6.335 -9.255,6.335 -9.255,-7.1
3D body: height 2.18, standoff 0, extent -8.255,-5.259 8.255,5.259

## INDC1107X65N [mm]
pads (2):
  rect 0.65x0.8 smd: 1(-0.65,0) 2(0.65,0)
Top Overlay:
  lines w0.2: 0,-0.23 0,0.23
Mechanical 13:
  lines w0.1: -0.555,-0.33 0.555,-0.33 0.555,0.33 -0.555,0.33 -0.555,-0.33
Mechanical 15:
  lines w0.05: -1.225,-0.65 1.225,-0.65 1.225,0.65 -1.225,0.65 -1.225,-0.65
3D body "0402DC-36NXJRW.stp": height 0.65, standoff 0, extent -0.555,-0.33 0.555,0.33